# Altium footprint library FT260novo.PcbLib: 1 footprints
Each footprint in its own frame and in the unit in brackets; x right, y up, seen from the top. Pads: shape width x height; smd on the part's side, far side on the other; paste and mask are expansions set on the pad; w line width, h text height; cw(c..) or ccw(c..) is an arc to the next point about the centre after c.
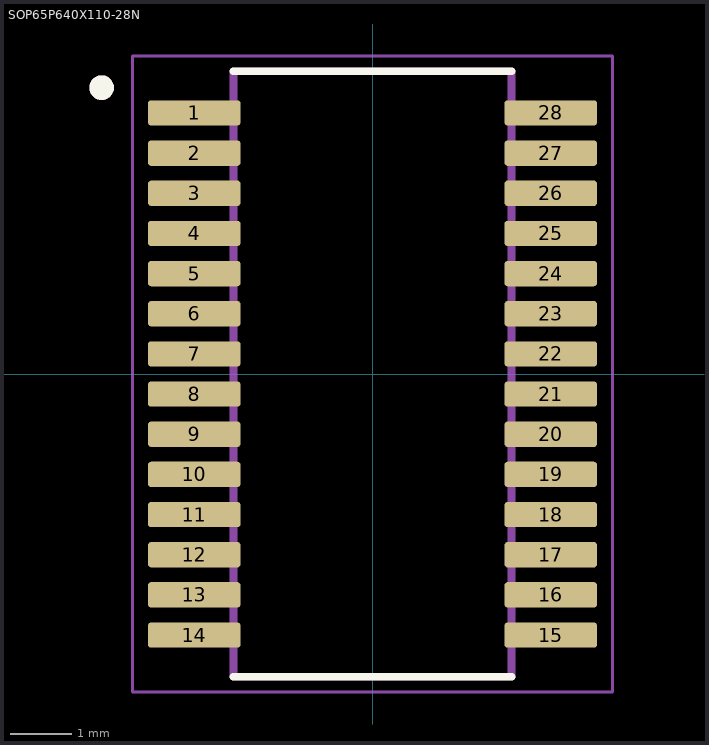
[diagram p0: the footprint, top view; thin cyan lines are the x and y axes]

## SOP65P640X110-28N [mm]
pads (28):
  rrect25% 1.5x0.41 smd: 1(-2.885,4.225) 2(-2.885,3.575) 3(-2.885,2.925) 4(-2.885,2.275) 5(-2.885,1.625) 6(-2.885,0.975) 7(-2.885,0.325) 8(-2.885,-0.325) 9(-2.885,-0.975) 10(-2.885,-1.625) 11(-2.885,-2.275) 12(-2.885,-2.925) 13(-2.885,-3.575) 14(-2.885,-4.225) 15(2.885,-4.225) 16(2.885,-3.575) 17(2.885,-2.925) 18(2.885,-2.275) 19(2.885,-1.625) 20(2.885,-0.975) 21(2.885,-0.325) 22(2.885,0.325) 23(2.885,0.975) 24(2.885,1.625) 25(2.885,2.275) 26(2.885,2.925) 27(2.885,3.575) 28(2.885,4.225)
Top Overlay:
  circle w0.2: c-4.385,4.635 r0.1
  lines w0.127: -2.25,-4.9 2.25,-4.9 ; -2.25,4.9 2.25,4.9
Mechanical 13:
  circle w0.2: c-4.385,4.635 r0.1
  lines w0.127: -2.25,-4.9 -2.25,4.9 2.25,4.9 2.25,-4.9 -2.25,-4.9
Mechanical 15:
  lines w0.05: -3.885,-5.15 -3.885,5.15 3.885,5.15 3.885,-5.15 -3.885,-5.15
3D body "step_temp.STEP": height 1.2, standoff 0, extent -3.2,-4.85 3.2,4.85